# Altium schematic symbol library Leak and Level Sense.SCHLIB: 6 symbols
Pins are listed as number, name and electrical type; pins without a type are passive.

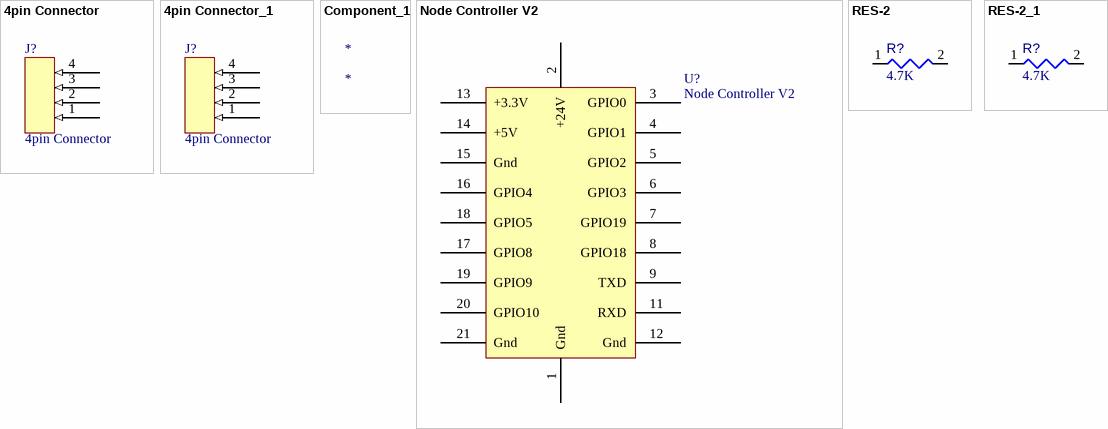
[diagram p0: symbols 4pin Connector to RES-2_1]

## 4pin Connector
designator J?
pins: 1 (in), 2 (in), 3 (in), 4 (in)

## 4pin Connector_1
designator J?, comment 4pin Connector
pins: 1 (in), 2 (in), 3 (in), 4 (in)

## Component_1
designator *

## Node Controller V2
designator U?
pins: 1 Gnd "Ground", 2 +24V, 3 GPIO0, 4 GPIO1, 5 GPIO2, 6 GPIO3, 7 GPIO19, 8 GPIO18, 9 TXD, 11 RXD, 12 Gnd "Ground", 13 +3.3V, 14 +5V, 15 Gnd "Ground", 16 GPIO4, 17 GPIO8 "GPIO5", 18 GPIO5 "GPIO8", 19 GPIO9, 20 GPIO10, 21 Gnd "Ground"

## RES-2
designator R?, comment value 4.7K  (hidden comment: Resistor 2K2  +/-5 % 0402 63 mW)
Chip Resistor, 2,2 kOhms, +/-5 %, 63 mW, -55 to 155 degC, 0402; Power: 63mW; Tolerance: 5%; Pins: 2; Min Operating Temperature: -55°C; Max Operating Temperature: 155°C; Case/Package: 0402
footprint RESC0402(1005)_L (Chip Resistor, Body 1.0x0.5mm, IPC High Density)
pins: 1, 2
1 alternate drawing of the same symbol

## RES-2_1
designator R?, comment value 4.7K  (hidden comment: Resistor 2K2  +/-5 % 0402 63 mW)
Chip Resistor, 2,2 kOhms, +/-5 %, 63 mW, -55 to 155 degC, 0402; Power: 63mW; Tolerance: 5%; Pins: 2; Min Operating Temperature: -55°C; Max Operating Temperature: 155°C; Case/Package: 0402
footprint RESC0402(1005)_L (Chip Resistor, Body 1.0x0.5mm, IPC High Density)
pins: 1, 2
1 alternate drawing of the same symbol